# EAGLE library part AD654 (library _openSX70)
Low Cost Monolithic Voltage-to-Frequency Converter
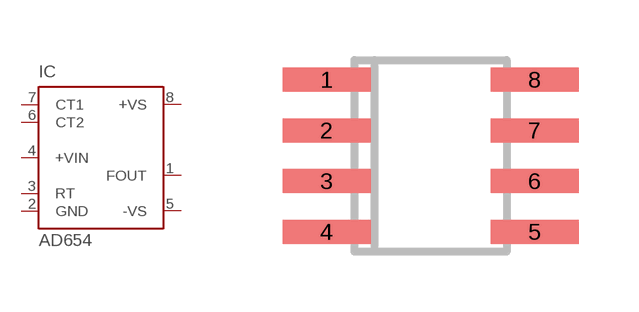
[diagram p12: symbol with the pads of SOIC8; footprint SOIC8]

Designator prefix IC

## AD654  [SOIC8]
1  FOUT  oc
2  GND  pwr
3  RT  pas
4  +VIN  in
5  -VS  pwr
6  CT2  pas
7  CT1  pas
8  +VS  pwr

## Footprint SOIC8 (pad centres in mm)
Small Outline IC
smd 2.2 x 0.6: 1 -2.6,1.905; 2 -2.6,0.635; 3 -2.6,-0.635; 4 -2.6,-1.905; 5 2.6,-1.905; 6 2.6,-0.635; 7 2.6,0.635; 8 2.6,1.905